# Altium footprint library ToponLib.PcbLib: 48 footprints (part 2 of 3)
Each footprint in its own frame and in the unit in brackets; x right, y up, seen from the top. Pads: shape width x height; smd on the part's side, far side on the other; paste and mask are expansions set on the pad; w line width, h text height; cw(c..) or ccw(c..) is an arc to the next point about the centre after c.
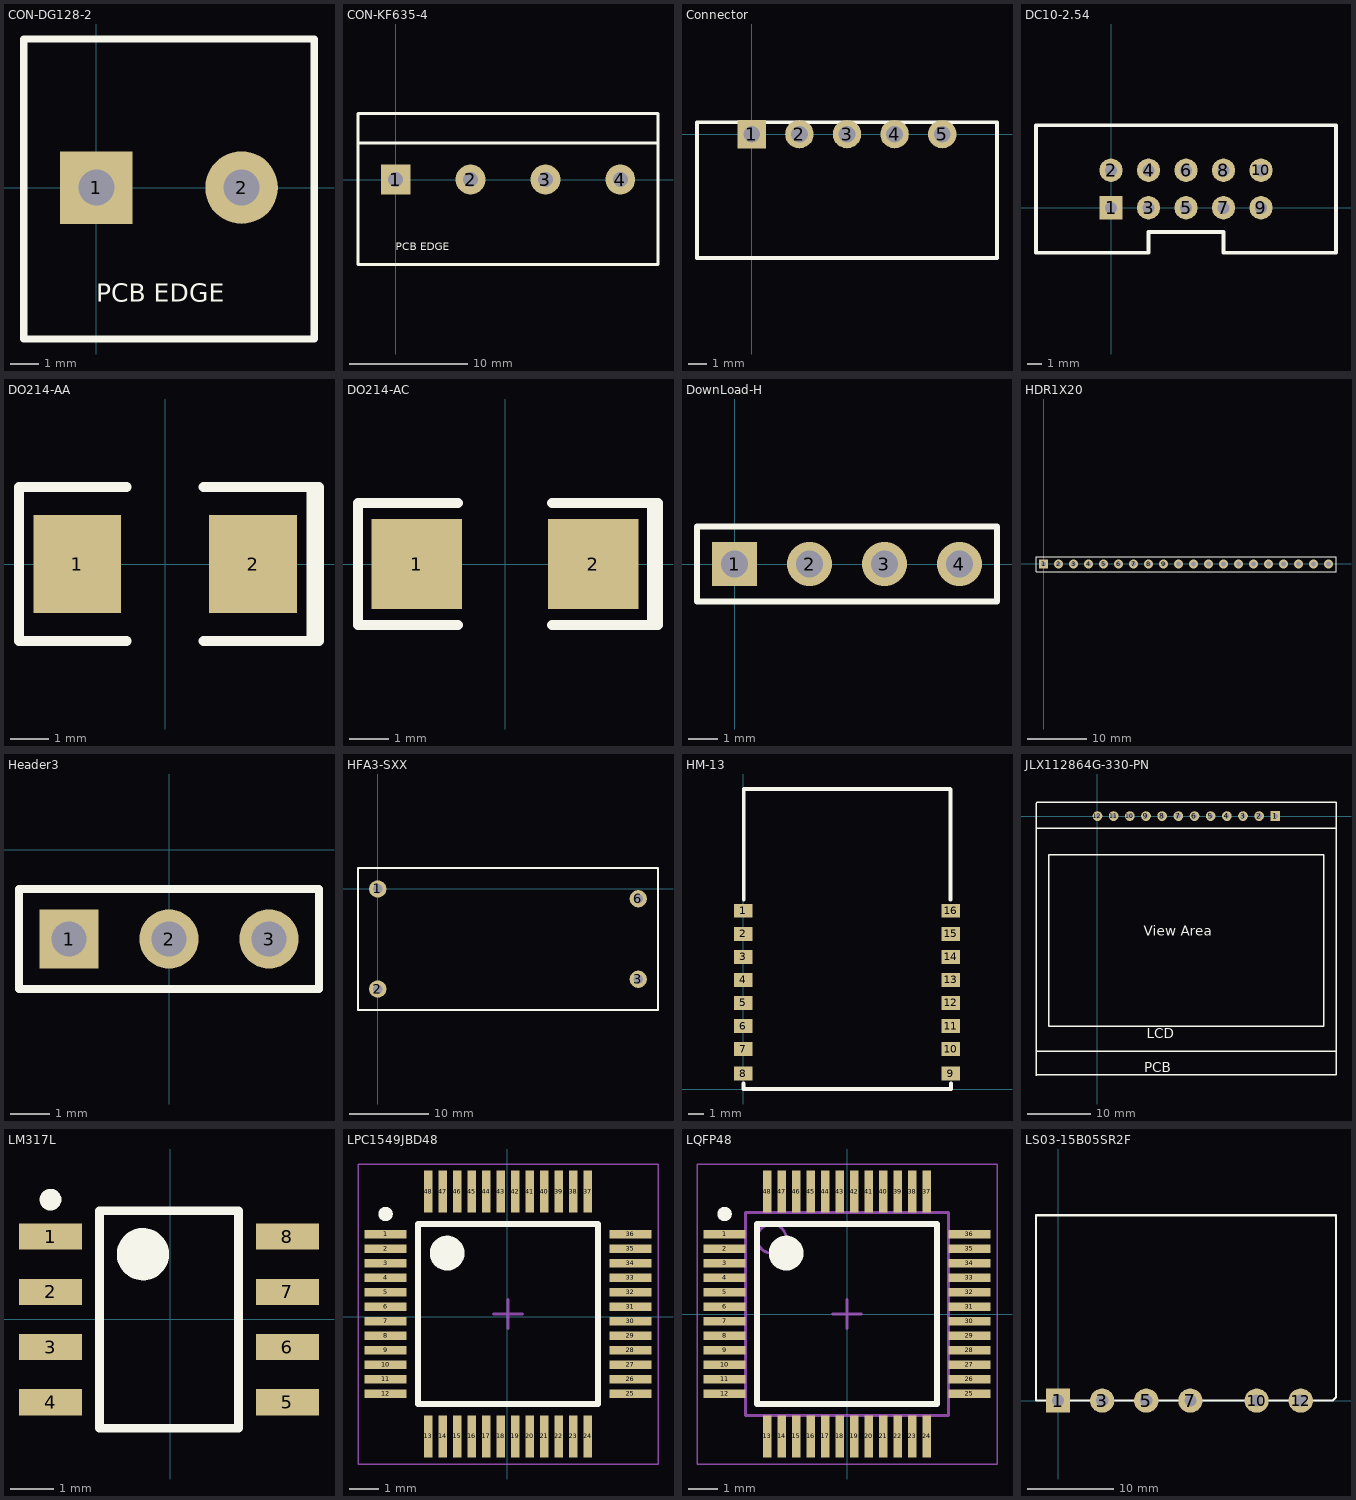
[diagram p1: the footprints below, top view; thin cyan lines are the x and y axes]

## CON-DG128-2 [mm]
pads (2):
  rect 2.54x2.54 hole 1.27: 1(0,0)
  round 2.54 hole 1.27: 2(5.08,0)
Top Overlay:
  lines w0.254: -2.54,-5.3 7.62,-5.3 7.62,5.2 -2.54,5.2 -2.54,-5.3
  text "PCB EDGE" at 0,-4 h0.64

## CON-KF635-4 [mm]
pads (4):
  rect 2.54x2.54 hole 1.27: 1(0,0)
  round 2.54 hole 1.27: 2(6.35,0) 3(12.7,0) 4(19.05,0)
Top Overlay:
  lines w0.254: -3.2,3.1 22.25,3.1 ; -3.2,-7.2 -3.2,5.6 22.25,5.6 22.25,-7.2 -3.2,-7.2
  text "PCB EDGE" at 0,-6 h0.64

## Connector [mm]
pads (5):
  rect 1.52x1.5 hole 0.9: 1(0,0)
  oval 1.52x1.5 hole 0.9: 2(2.54,0) 3(5.08,0) 4(7.62,0) 5(10.16,0)
Top Overlay:
  lines w0.203: -2.921,-6.604 13.081,-6.604 13.081,0.635 -1.27,0.635 -2.921,0.635 -2.921,-6.604

## DC10-2.54 [mil]
pads (10):
  rect 62x62 hole 32: 1(0,0)
  round 62 hole 32: 2(0,100) 3(100,0) 4(100,100) 5(200,0) 6(200,100) 7(300,0) 8(300,100) 9(400,0) 10(400,100)
Top Overlay:
  lines w10: -200,-120 100,-120 100,-65 300,-65 300,-120 600,-120 600,220 -200,220 -200,-120

## DO214-AA [mil]
pads (2):
  rect 90x100 smd: 1(-90,0) 2(90,0)
Top Overlay:
  lines w10: -149.61,-78.74 -149.61,78.74 ; -147.64,-78.74 -39.37,-78.74 ; -147.64,78.74 -39.37,78.74 ; 39.37,-78.74 157.48,-78.74 157.48,78.74 39.37,78.74 ; 149.61,-78.74 149.61,78.74

## DO214-AC [mm]
pads (2):
  rect 2.3x2.3 smd: 1(-2.25,0) 2(2.25,0)
Top Overlay:
  lines w0.254: -1.2,-1.55 -3.75,-1.55 -3.75,1.55 -1.2,1.55 ; 1.2,-1.55 3.9,-1.55 3.9,1.55 1.2,1.55 ; 3.75,-1.55 3.75,1.55

## DownLoad-H [mm]
pads (4):
  rect 1.52x1.5 hole 0.9: 1(0,0)
  oval 1.52x1.5 hole 0.9: 2(2.54,0) 3(5.08,0) 4(7.62,0)
Top Overlay:
  lines w0.203: -1.27,-1.27 -1.27,1.27 8.89,1.27 8.89,-1.27 -1.27,-1.27

## HDR1X20 [mm]
pads (20):
  rect 1.5x1.5 hole 0.9: 1(0,0)
  round 1.5 hole 0.9: 2(2.54,0) 3(5.08,0) 4(7.62,0) 5(10.16,0) 6(12.7,0) 7(15.24,0) 8(17.78,0) 9(20.32,0) 10(22.86,0) 11(25.4,0) 12(27.94,0) 13(30.48,0) 14(33.02,0) 15(35.56,0) 16(38.1,0) 17(40.64,0) 18(43.18,0) 19(45.72,0) 20(48.26,0)
Top Overlay:
  lines w0.2: -1.27,-1.27 49.53,-1.27 49.53,1.27 0.635,1.27 -1.27,1.27 -1.27,-1.27

## Header3 [mm]
pads (3):
  rect 1.5x1.5 hole 0.9: 1(-2.54,-2.27)
  round 1.5 hole 0.9: 2(0,-2.27) 3(2.54,-2.27)
Top Overlay:
  lines w0.2: -3.81,-3.54 3.81,-3.54 3.81,-1 -3.81,-1 -3.81,-3.54

## HFA3-SXX [mm]
pads (4):
  round 2.2 hole 1.2: 1(0,0) 2(0,-12.7) 3(33,-11.45) 6(33,-1.25)
Top Overlay:
  lines w0.254: -2.5,-15.35 -2.5,2.65 35.5,2.65 35.5,-15.35 -2.5,-15.35

## HM-13 [mm]
pads (16):
  rect 1.2x0.9 smd: 1(0,11.6) 2(0,10.1) 3(0,8.6) 4(0,7.1) 5(0,5.6) 6(0,4.1) 7(0,2.6) 8(0,1) 9(13.5,1) 10(13.5,2.6) 11(13.5,4.1) 12(13.5,5.6) 13(13.5,7.1) 14(13.5,8.6) 15(13.5,10.1) 16(13.5,11.6)
Top Overlay:
  lines w0.254: 0,0.356 0,0 13.513,0 13.513,0.356 ; 0.025,12.319 0.025,19.507 0.051,19.533 3.404,19.533 10.109,19.533 13.462,19.533 13.487,19.507 13.487,12.344

## JLX112864G-330-PN [mil]
pads (12):
  rect 60x60 hole 32: 1(1100,0)
  round 60 hole 32: 2(1000,0) 3(900,0) 4(800,0) 6(600,0) 7(500,0) 8(400,0) 9(300,0) 10(200,0) 11(100,0) 12(0,0)
  round 60 hole 30: 5(700,0)
Top Overlay:
  lines w8: -380,-1455 1475,-1455 ; -380,-75 1475,-75 ; -380,-1605 -380,-1510 -380,-270 -380,80 -375,85 -100,85 1475,85 1475,-1600 -375,-1600 -380,-1605 ; -300,-1300 1400,-1300 1400,-240 1175,-240 515,-240 -300,-240 -300,-1300
  text "View Area" at 285,-740 h60
  text "PCB" at 290,-1585 h60
  text "LCD" at 305,-1375 h60

## LM317L [mm]
pads (8):
  rect 1.45x0.6 smd: 1(-2.75,1.905) 2(-2.75,0.635) 3(-2.75,-0.635) 4(-2.75,-1.905) 5(2.7,-1.905) 6(2.7,-0.635) 7(2.7,0.635) 8(2.7,1.905)
Top Overlay:
  circle w0.25: c-2.75,2.755 r0.125
  circle w0.6: c-0.625,1.5 r0.3
  lines w0.2: -1.625,-2.5 -1.625,2.5 1.575,2.5 1.575,-2.5 -1.625,-2.5

## LPC1549JBD48 [mm]
pads (48):
  rect 1.45x0.3 smd: 1(-4.2,2.852) 2(-4.2,2.352) 3(-4.2,1.852) 4(-4.2,1.352) 5(-4.2,0.852) 6(-4.2,0.352) 7(-4.2,-0.148) 8(-4.2,-0.648) 9(-4.2,-1.148) 10(-4.2,-1.648) 11(-4.2,-2.148) 12(-4.2,-2.648) 25(4.25,-2.648) 26(4.25,-2.148) 27(4.25,-1.648) 28(4.25,-1.148) 29(4.25,-0.648) 30(4.25,-0.148) 31(4.25,0.352) 32(4.25,0.852) 33(4.25,1.352) 34(4.25,1.852) 35(4.25,2.352) 36(4.25,2.852)
  rect 0.3x1.45 smd: 13(-2.725,-4.123) 14(-2.225,-4.123) 15(-1.725,-4.123) 16(-1.225,-4.123) 17(-0.725,-4.123) 18(-0.225,-4.123) 19(0.275,-4.123) 20(0.775,-4.123) 21(1.275,-4.123) 22(1.775,-4.123) 23(2.275,-4.123) 24(2.775,-4.123) 37(2.775,4.327) 38(2.275,4.327) 39(1.775,4.327) 40(1.275,4.327) 41(0.775,4.327) 42(0.275,4.327) 43(-0.225,4.327) 44(-0.725,4.327) 45(-1.225,4.327) 46(-1.725,4.327) 47(-2.225,4.327) 48(-2.725,4.327)
Top Overlay:
  circle w0.6: c-2.075,2.202 r0.3
  circle w0.25: c-4.2,3.552 r0.125
  lines w0.2: -3.075,-2.998 3.125,-2.998 3.125,3.202 -3.075,3.202 -3.075,-2.998
Mechanical 15:
  lines w0.05: -5.15,-5.073 5.2,-5.073 5.2,5.277 -5.15,5.277 -5.15,-5.073
  lines w0.1: -0.475,0.102 0.525,0.102 ; 0.025,-0.398 0.025,0.602

## LQFP48 [mm] "LPC1549JBD48"
height 1.6
pads (48):
  rect 1.45x0.3 smd: 1(-4.225,2.75) 2(-4.225,2.25) 3(-4.225,1.75) 4(-4.225,1.25) 5(-4.225,0.75) 6(-4.225,0.25) 7(-4.225,-0.25) 8(-4.225,-0.75) 9(-4.225,-1.25) 10(-4.225,-1.75) 11(-4.225,-2.25) 12(-4.225,-2.75) 25(4.225,-2.75) 26(4.225,-2.25) 27(4.225,-1.75) 28(4.225,-1.25) 29(4.225,-0.75) 30(4.225,-0.25) 31(4.225,0.25) 32(4.225,0.75) 33(4.225,1.25) 34(4.225,1.75) 35(4.225,2.25) 36(4.225,2.75)
  rect 0.3x1.45 smd: 13(-2.75,-4.225) 14(-2.25,-4.225) 15(-1.75,-4.225) 16(-1.25,-4.225) 17(-0.75,-4.225) 18(-0.25,-4.225) 19(0.25,-4.225) 20(0.75,-4.225) 21(1.25,-4.225) 22(1.75,-4.225) 23(2.25,-4.225) 24(2.75,-4.225) 37(2.75,4.225) 38(2.25,4.225) 39(1.75,4.225) 40(1.25,4.225) 41(0.75,4.225) 42(0.25,4.225) 43(-0.25,4.225) 44(-0.75,4.225) 45(-1.25,4.225) 46(-1.75,4.225) 47(-2.25,4.225) 48(-2.75,4.225)
Top Overlay:
  circle w0.6: c-2.1,2.1 r0.3
  circle w0.25: c-4.225,3.45 r0.125
  lines w0.2: -3.1,-3.1 3.1,-3.1 3.1,3.1 -3.1,3.1 -3.1,-3.1
Mechanical 13:
  circle w0.1: c-2.6,2.6 r0.5
  lines w0.1: -3.5,-3.5 3.5,-3.5 3.5,3.5 -3.5,3.5 -3.5,-3.5
Mechanical 15:
  lines w0.05: -5.175,-5.175 5.175,-5.175 5.175,5.175 -5.175,5.175 -5.175,-5.175
  lines w0.1: -0.5,0 0.5,0 ; 0,-0.5 0,0.5
3D body: height 1.6, standoff 0.05, extent -3.5,-3.5 3.5,3.5

## LS03-15B05SR2F [mm]
pads (6):
  rect 2.8x2.8 hole 1.4: 1(0,0)
  round 2.8 hole 1.4: 3(5.08,0) 5(10.16,0) 7(15.24,0) 10(22.86,0) 12(27.94,0)
Top Overlay:
  lines w0.254: -2.54,0 -2.54,21.336 32.004,21.336 32.004,0.381 31.623,0 -2.54,0